# EAGLE library part CC1101CON (library Eagle-Lib)
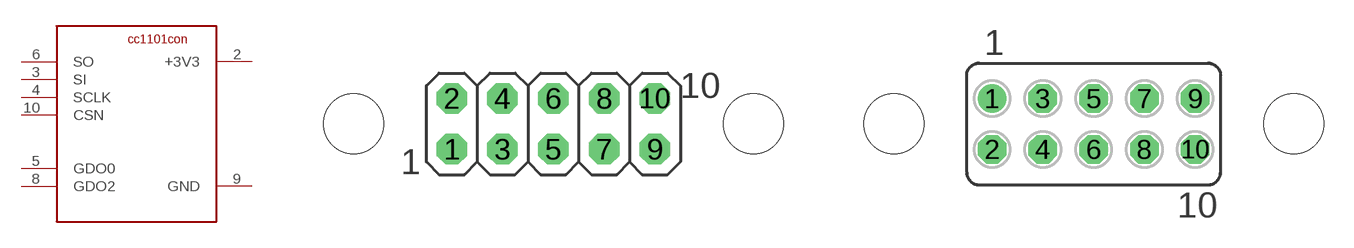
[diagram p8: symbol with the pads of 2X5; footprints 2X5, FE2X5]

Designator prefix -

## CC1101CONMALE  [2X5]
2  +3V3
3  SI
4  SCLK
5  GDO0
6  SO
8  GDO2
9  GND
10  CSN

## CC1101CONFEMALE  [FE2X5]
1  +3V3
3  SCLK
4  SI
5  SO
6  GDO0
7  GDO2
9  CSN
10  GND

## Footprint 2X5 (pad centres in mm)
drill 1.016 octagon: 1 -5.08,-1.27; 2 -5.08,1.27; 3 -2.54,-1.27; 4 -2.54,1.27; 5 0,-1.27; 6 0,1.27; 7 2.54,-1.27; 8 2.54,1.27; 9 5.08,-1.27; 10 5.08,1.27
hole 3 at 10,0
hole 3 at -10,0

## Footprint FE2X5 (pad centres in mm)
drill 0.914: 1 -5.08,1.27
drill 0.914 octagon: 2 -5.08,-1.27; 3 -2.54,1.27; 4 -2.54,-1.27; 5 0,1.27; 6 0,-1.27; 7 2.54,1.27; 8 2.54,-1.27; 9 5.08,1.27; 10 5.08,-1.27
hole 3 at 10,0
hole 3 at -10,0